# EAGLE library part ISM330DHCXTR (library ISM330DHCXTR)
IMUs - Inertial Measurement Units VFLGA2.5X3X.86 14L P.5 L.475X.25 Source: Datasheet <https://www.st.com/resource/en/datasheet/ism330dhcx.pdf>
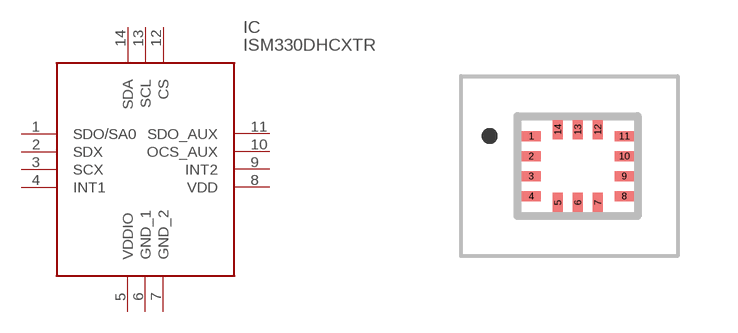
[diagram p0: symbol with the pads of LSM6DS3USTR; footprint LSM6DS3USTR]

Designator prefix IC

## ISM330DHCXTR (Description: IMUs - Inertial Measurement Units VFLGA2.5X3X.86 14L P.5 L.475X.25; Height: 0.86mm; Manufacturer_Name: STMicroelectronics; Manufacturer_Part_Number: ISM330DHCXTR; Mouser_Part_Number: 511-ISM330DHCXTR; Mouser_Price-Stock: https://www.mouser.co.uk/ProductDetail/STMicroelectronics/ISM330DHCXTR?qs=%252B6g0mu59x7Jv2Xps2dM6Xw%3D%3D)  [LSM6DS3USTR]
1  SDO/SA0
2  SDX
3  SCX
4  INT1
5  VDDIO
6  GND_1
7  GND_2
8  VDD
9  INT2
10  OCS_AUX
11  SDO_AUX
12  CS
13  SCL
14  SDA

## Footprint LSM6DS3USTR (pad centres in mm)
LGA-14(2.5x3x0.86)
smd 0.475 x 0.25: 1 -1.163,0.75; 2 -1.163,0.25; 3 -1.163,-0.25; 4 -1.163,-0.75; 8 1.163,-0.75; 9 1.163,-0.25; 10 1.163,0.25; 11 1.163,0.75
smd 0.25 x 0.475: 5 -0.5,-0.912; 6 0,-0.912; 7 0.5,-0.912; 12 0.5,0.912; 13 0,0.912; 14 -0.5,0.912